# EAGLE library part DIP-WHITE-MALE-HEADER-VERT(40P-2.0) (library OPL-Connector)
320020089
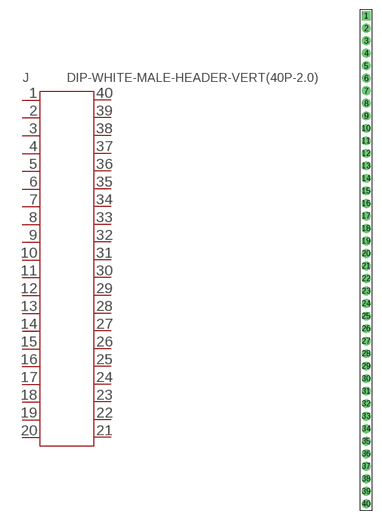
[diagram p16: symbol with the pads of H40-2.0; footprint H40-2.0]

Designator prefix J

## DIP-WHITE-MALE-HEADER-VERT(40P-2.0) (MPN: P220-1140A0BS087A1)  [H40-2.0]
1  P$1
2  P$2
3  P$3
4  P$4
5  P$5
6  P$6
7  P$7
8  P$8
9  P$9
10  P$10
11  P$11
12  P$12
13  P$13
14  P$14
15  P$15
16  P$16
17  P$17
18  P$18
19  P$19
20  P$20
21  P$21
22  P$22
23  P$23
24  P$24
25  P$25
26  P$26
27  P$27
28  P$28
29  P$29
30  P$30
31  P$31
32  P$32
33  P$33
34  P$34
35  P$35
36  P$36
37  P$37
38  P$38
39  P$39
40  P$40

## Footprint H40-2.0 (pad centres in mm)
drill 0.8 pad 1.4 square: 1 0,39
drill 0.8 pad 1.4: 2 0,37; 3 0,35; 4 0,33; 5 0,31; 6 0,29; 7 0,27; 8 0,25; 9 0,23; 10 0,21; 11 0,19; 12 0,17; 13 0,15; 14 0,13; 15 0,11; 16 0,9; 17 0,7; 18 0,5; 19 0,3; 20 0,1; 21 0,-1; 22 0,-3; 23 0,-5; 24 0,-7; 25 0,-9; 26 0,-11; 27 0,-13; 28 0,-15; 29 0,-17; 30 0,-19; 31 0,-21; 32 0,-23; 33 0,-25; 34 0,-27; 35 0,-29; 36 0,-31; 37 0,-33; 38 0,-35; 39 0,-37; 40 0,-39